# Altium footprint library MainPCBLib.PcbLib: 9 footprints
Each footprint in its own frame and in the unit in brackets; x right, y up, seen from the top. Pads: shape width x height; smd on the part's side, far side on the other; paste and mask are expansions set on the pad; w line width, h text height; cw(c..) or ccw(c..) is an arc to the next point about the centre after c.
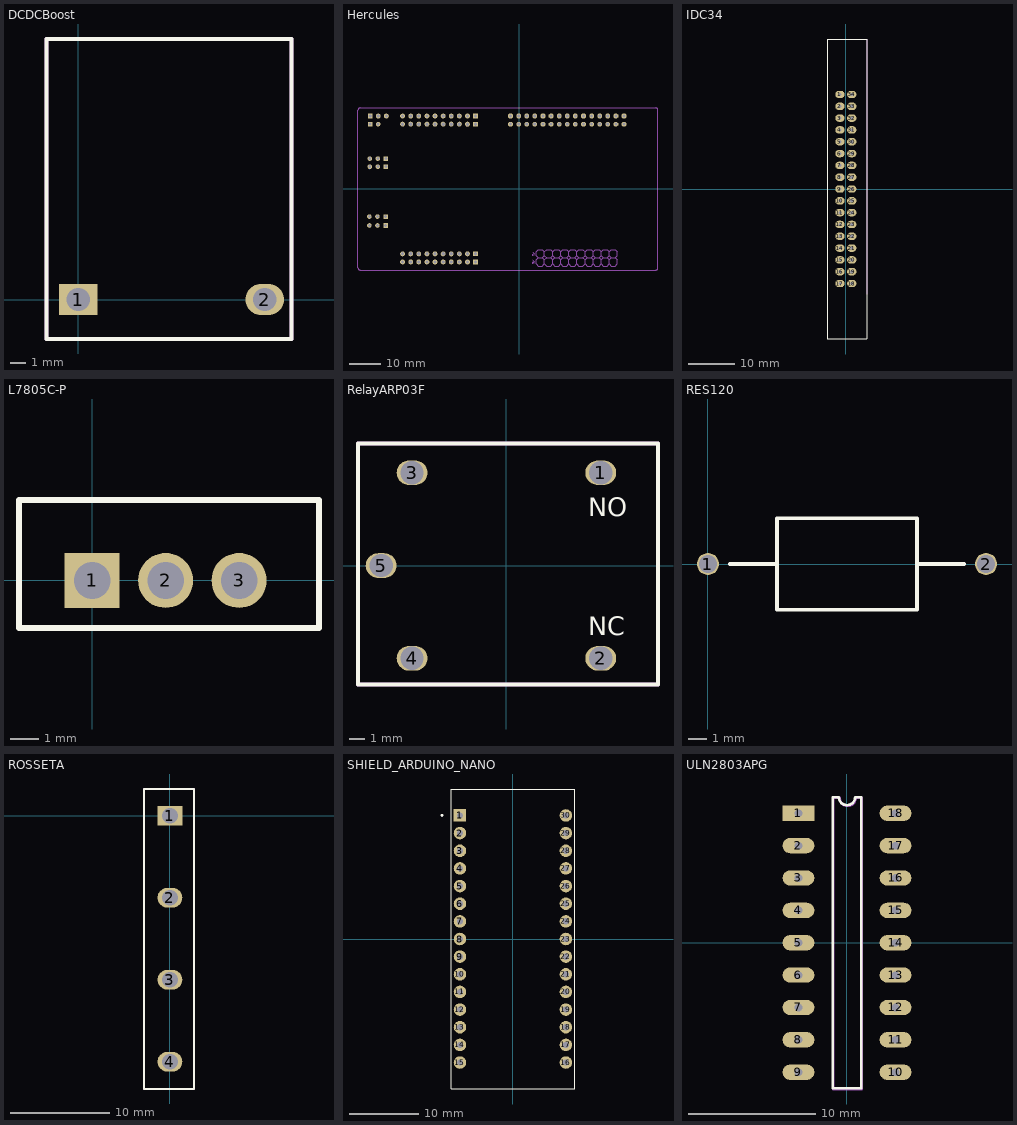
[diagram p0: the footprints below, top view; thin cyan lines are the x and y axes]

## DCDCBoost [mm]
pads (2):
  rect 2.5x2 hole 1.5: 1(0,0)
  oval 2.5x2 hole 1.5: 2(12,0)
Top Overlay:
  lines w0.254: -2.032,-2.54 -2.032,16.764 ; -2.032,-2.54 13.716,-2.54 ; -2.032,-2.54 13.716,-2.54 ; -2.032,-2.54 -2.032,16.764 ; -2.032,16.764 13.716,16.764 ; -2.032,16.764 13.716,16.764 ; 13.716,-2.54 13.716,16.764 ; 13.716,-2.54 13.716,16.764
Mechanical 29:
  lines w0.254: -2.032,-2.54 -2.032,16.764 ; -2.032,-2.54 13.716,-2.54 ; -2.032,-2.54 13.716,-2.54 ; -2.032,-2.54 -2.032,16.764 ; -2.032,16.764 13.716,16.764 ; -2.032,16.764 13.716,16.764 ; 13.716,-2.54 13.716,16.764 ; 13.716,-2.54 13.716,16.764
  text "'.Designator'" at -0.508,5.588 h2

## Hercules [mil]
pads (87):
  rect 56x56 / inner rect 60x60 / far side rect 56x56 hole 36: 1(-1840.42,799.91) 71(-1649.42,-450.08) 74(-1649.42,-340.08) 76(-1644.42,274.92) 78(-1644.42,374.92)
  rect 58.09x58.09 / inner rect 60x60 / far side rect 58.09x58.09 hole 40: 1(-1839.42,899.91) 31(-539.42,899.91) 32(-539.42,799.91) 51(-539.42,-800.09) 52(-539.42,-900.09)
  oct 58.09x58.09 / inner oct 60x60 / far side oct 58.09x58.09 hole 40: 1(1291.74,900.09) 2(1291.74,800.09) 3(1191.74,900.09) 4(1191.74,800.09) 5(1091.74,900.09) 6(1091.74,800.09) 7(991.74,900.09) 8(991.74,800.09) 9(891.74,900.09) 10(891.74,800.09) 11(791.74,900.09) 12(791.74,800.09) 13(691.74,900.09) 14(691.74,800.09) 15(591.74,900.09) 16(591.74,800.09) 17(491.74,900.09) 18(491.74,800.09) 19(391.74,900.09) 20(391.74,800.09) 21(291.74,900.09) 22(291.74,800.09) 23(191.74,900.09) 24(191.74,800.09) 25(91.74,900.09) 26(91.74,800.09) 27(-8.26,900.09) 28(-8.26,800.09) 29(-108.26,900.09) 30(-108.26,800.09)
  round 56 / inner round 60 / far side round 56 hole 36: 2(-1740.42,799.91) 72(-1849.42,-450.08) 73(-1849.42,-340.08) 75(-1844.42,274.92) 77(-1844.42,374.92) 79(-1744.42,374.92) 80(-1744.42,274.92) 81(-1749.42,-340.08) 82(-1749.42,-450.08)
  round 60 hole 40: 2(-1739.42,899.91) 3(-1639.42,899.91) 33(-639.42,899.91) 34(-639.42,799.91) 35(-739.42,899.91) 36(-739.42,799.91) 37(-839.42,899.91) 38(-839.42,799.91) 39(-939.42,899.91) 40(-939.42,799.91) 41(-1039.42,899.91) 42(-1039.42,799.91) 43(-1139.42,899.91) 44(-1139.42,799.91) 45(-1239.42,899.91) 46(-1239.42,799.91) 47(-1339.42,899.91) 48(-1339.42,799.91) 49(-1439.42,899.91) 50(-1439.42,799.91) 53(-639.42,-800.09) 54(-639.42,-900.09) 55(-739.42,-800.09) 56(-739.42,-900.09) 57(-839.42,-800.09) 58(-839.42,-900.09) 59(-939.42,-800.09) 60(-939.42,-900.09) 61(-1039.42,-800.09) 62(-1039.42,-900.09) 63(-1139.42,-800.09) 64(-1139.42,-900.09) 65(-1239.42,-800.09) 66(-1239.42,-900.09) 67(-1339.42,-800.09) 68(-1339.42,-900.09) 69(-1439.42,-800.09) 70(-1439.42,-900.09)
Top Layer:
  lines w6: -1740.42,799.91 -1739.42,799.91 -1739.42,804.91 ; -1654.42,-450.08 -1649.42,-450.08 ; -1139.42,799.91 -1134.42,804.91 ; -639.42,769.91 -639.42,799.91 ; -8.26,886.08 -8.26,900.09 ; 190.74,890.08 191.74,900.09 ; 290.74,895.08 291.74,900.09 ; 485.75,900.09 491.74,900.09 ; 591.74,896.08 591.74,900.09 ; 690.74,880.08 691.74,900.09 ; 785.75,900.09 791.74,900.09 ; 990.74,895.08 991.74,900.09 ; 1090.58,804.91 1090.58,801.25 1091.74,800.09
Bottom Layer:
  lines w6: -1844.42,244.91 -1844.42,274.92 ; -1844.42,359.92 -1844.42,374.92 ; -1439.42,899.91 -1439.42,904.91 ; -739.42,799.91 -736.92,802.41 -739.42,804.91
Bottom Overlay:
  lines w5: -1989.42,-971.8 ccw(c-1961.14,-971.8) -1961.14,-1000.08 1682.3,-1000.09 ccw(c1682.3,-971.8) 1710.58,-971.8 1710.58,971.63 ccw(c1682.3,971.63) 1682.3,999.91 -1961.14,999.91 ccw(c-1961.14,971.63) -1989.42,971.63 -1989.42,-971.8
Mechanical 8:
  region: -1329.42,-910.09 -1329.42,-890.09 -1349.42,-890.09 -1349.42,-910.09
  region: -1229.42,-910.09 -1229.42,-890.09 -1249.42,-890.09 -1249.42,-910.09
  region: -1129.42,-910.09 -1129.42,-890.09 -1149.42,-890.09 -1149.42,-910.09
  region: -1029.42,-910.09 -1029.42,-890.09 -1049.42,-890.09 -1049.42,-910.09
  region: -929.42,-910.09 -929.42,-890.09 -949.42,-890.09 -949.42,-910.09
  region: -829.42,-910.09 -829.42,-890.09 -849.42,-890.09 -849.42,-910.09
  region: -729.42,-910.09 -729.42,-890.09 -749.42,-890.09 -749.42,-910.09
  region: -629.42,-910.09 -629.42,-890.09 -649.42,-890.09 -649.42,-910.09
  region: -529.42,-910.09 -529.42,-890.09 -549.42,-890.09 -549.42,-910.09
  region: -1429.42,-910.09 -1429.42,-890.09 -1449.42,-890.09 -1449.42,-910.09
  region: -1329.42,-810.09 -1329.42,-790.09 -1349.42,-790.09 -1349.42,-810.09
  region: -1229.42,-810.09 -1229.42,-790.09 -1249.42,-790.09 -1249.42,-810.09
  region: -1129.42,-810.09 -1129.42,-790.09 -1149.42,-790.09 -1149.42,-810.09
  region: -929.42,-810.09 -929.42,-790.09 -949.42,-790.09 -949.42,-810.09
  region: -829.42,-810.09 -829.42,-790.09 -849.42,-790.09 -849.42,-810.09
  region: -729.42,-810.09 -729.42,-790.09 -749.42,-790.09 -749.42,-810.09
  region: -629.42,-810.09 -629.42,-790.09 -649.42,-790.09 -649.42,-810.09
  region: -529.42,-810.09 -529.42,-790.09 -549.42,-790.09 -549.42,-810.09
  region: -1429.42,-810.09 -1429.42,-790.09 -1449.42,-790.09 -1449.42,-810.09
Mechanical 22:
  drawing of 148 lines, arcs and shapes, not listed
Mechanical 29:
  lines w5: -1989.42,-971.8 ccw(c-1961.14,-971.8) -1961.14,-1000.08 1682.3,-1000.09 ccw(c1682.3,-971.8) 1710.58,-971.8 1710.58,971.63 ccw(c1682.3,971.63) 1682.3,999.91 -1961.14,999.91 ccw(c-1961.14,971.63) -1989.42,971.63 -1989.42,-971.8
  lines w6: -1239.42,-910.09 -1239.42,-900.09 ; -1154.42,-900.09 -1139.42,-900.09 ; -944.42,-800.09 -939.42,-795.09 -939.42,-800.09
  text "'.Designator'" at -1115,-200 h196.85
3D body "LAUNCHXL-RM42_RevB.step": height 63.51, standoff 0.5, extent -2013,-1000.09 1687,999.92

## IDC34 [mm]
pads (34):
  oval 2x1.6 hole 0.7: 1(-1.27,20.32) 2(-1.27,17.78) 3(-1.27,15.24) 4(-1.27,12.7) 5(-1.27,10.16) 6(-1.27,7.62) 7(-1.27,5.08) 8(-1.27,2.54) 9(-1.27,0) 10(-1.27,-2.54) 11(-1.27,-5.08) 12(-1.27,-7.62) 13(-1.27,-10.16) 14(-1.27,-12.7) 15(-1.27,-15.24) 16(-1.27,-17.78) 17(-1.27,-20.32) 18(1.27,-20.32) 19(1.27,-17.78) 20(1.27,-15.24) 21(1.27,-12.7) 22(1.27,-10.16) 23(1.27,-7.62) 24(1.27,-5.08) 25(1.27,-2.54) 26(1.27,0) 27(1.27,2.54) 28(1.27,5.08) 29(1.27,7.62) 30(1.27,10.16) 31(1.27,12.7) 32(1.27,15.24) 33(1.27,17.78) 34(1.27,20.32)
Top Overlay:
  lines w0.2: -4,-32.25 4.5,-32.25 4.5,32.25 -4,32.25 -4,-32.25
Mechanical 29:
  lines w0.2: -4,-22.68 -4,32.25 4.5,32.25 4.5,-22.68
  text "'.Designator'" at -3,0 h1.2
3D body "c-102321-8-g-3d.stp": height 26.81, standoff -3.92, extent -4.017,-31.25 4.517,31.234

## L7805C-P [mm]
pads (3):
  rect 1.91x1.91 hole 1.27: 1(0,0)
  round 1.91 hole 1.27: 2(2.55,0) 3(5.1,0)
Top Overlay:
  lines w0.2: -2.54,-1.651 7.874,-1.651 7.874,2.794 -2.54,2.794 -2.54,-1.651
3D body "L7805CV--3DModel-STEP-56544.STEP": height 19.21, standoff -9.69, extent -2.433,-1.651 7.767,2.849

## RelayARP03F [mm]
pads (5):
  oval 2x1.6 hole 1.5: 1(6.1,6) 2(6.1,-6) 3(-6.1,6) 4(-6.1,-6) 5(-8.1,0)
Top Overlay:
  lines w0.254: -9.6,-7.7 -9.6,7.9 9.8,7.9 9.8,-7.7 -9.6,-7.7
  text "NC" at 5.3,-4.5 h1.2
  text "NO" at 5.3,3.2 h1.2
Mechanical 29:
  lines w0.254: -9.6,-7.7 9.8,-7.7 9.8,7.9 -9.6,7.9 -9.6,-7.7
  text "'.Designator'" at -5,0 h1.2
  text "NO" at 5.3,3.2 h1.2
  text "NC" at 5.3,-4.5 h1.2
3D body "User Library-Relay RAS.step": height 15.71, standoff -2.49, extent -9.5,-7.6 9.7,7.8

## RES120 [mm]
pads (2):
  round 1.2 hole 1: 1(0,0) 2(15.2,0)
Top Overlay:
  lines w0.2: 1.2,0 3.775,0 ; 11.425,0 14,0 ; 3.775,0 3.775,2.5 11.425,2.5 11.425,-2.5 3.775,-2.5 3.775,0
Mechanical 29:
  text "'.Designator'" at 4.445,-1.143 h2

## ROSSETA [mm]
pads (4):
  rect 2.5x2 hole 1.6: 1(0,0)
  oval 2.5x2 hole 1.6: 2(0,-8.25) 3(0,-16.51) 4(0,-24.76)
Top Overlay:
  lines w0.2: -2.616,-27.508 2.438,-27.508 2.438,2.692 -2.616,2.692 -2.616,-27.508
Mechanical 29:
  lines w0.2: -2.616,-27.508 -2.616,2.692 2.438,2.692 2.438,-27.508 -2.616,-27.508
  text "'.Designator'" at -2.007,-13.589 h2

## SHIELD_ARDUINO_NANO [mm]
pads (30):
  rect 1.8x1.8 hole 0.9: 1(-7.62,17.78)
  round 1.8 hole 0.9: 2(-7.62,15.24) 3(-7.62,12.7) 4(-7.62,10.16) 5(-7.62,7.62) 6(-7.62,5.08) 7(-7.62,2.54) 8(-7.62,0) 9(-7.62,-2.54) 10(-7.62,-5.08) 11(-7.62,-7.62) 12(-7.62,-10.16) 13(-7.62,-12.7) 14(-7.62,-15.24) 15(-7.62,-17.78) 16(7.62,-17.78) 17(7.62,-15.24) 18(7.62,-12.7) 19(7.62,-10.16) 20(7.62,-7.62) 21(7.62,-5.08) 22(7.62,-2.54) 23(7.62,0) 24(7.62,2.54) 25(7.62,5.08) 26(7.62,7.62) 27(7.62,10.16) 28(7.62,12.7) 29(7.62,15.24) 30(7.62,17.78)
Top Overlay:
  circle w0.2: c-10.2,17.8 r0.1
  lines w0.127: -8.89,-21.59 8.89,-21.59 8.89,21.59 -8.89,21.59 -8.89,-21.59

## ULN2803APG [mm]
pads (18):
  rect 2.5x1.2 hole 0.6: 1(-3.81,10.16)
  oval 2.5x1.2 hole 0.6: 2(-3.81,7.62) 3(-3.81,5.08) 4(-3.81,2.54) 5(-3.81,0) 6(-3.81,-2.54) 7(-3.81,-5.08) 8(-3.81,-7.62) 9(-3.81,-10.16) 10(3.81,-10.16) 11(3.81,-7.62) 12(3.81,-5.08) 13(3.81,-2.54) 14(3.81,0) 15(3.81,2.54) 16(3.81,5.08) 17(3.81,7.62) 18(3.81,10.16)
Top Overlay:
  lines w0.2: -1.115,-11.43 1.115,-11.43 1.115,11.43 0.635,11.43 cw(c0,11.43) -0.635,11.43 -1.115,11.43 -1.115,-11.43
Mechanical 29:
  lines w0.2: -1.064,-11.481 -1.064,11.379 -0.584,11.379 ccw(c0.051,11.379) 0.686,11.379 1.166,11.379 1.166,-11.481 -1.064,-11.481
  text "'.Designator'" at -0.889,-1.702 h2
3D body "2445623_1-2199298-5.stp": height 5.11, standoff -2.99, extent -5,-11.43 5,11.43